# EAGLE library part RBB30DHHN (library FutureSat)
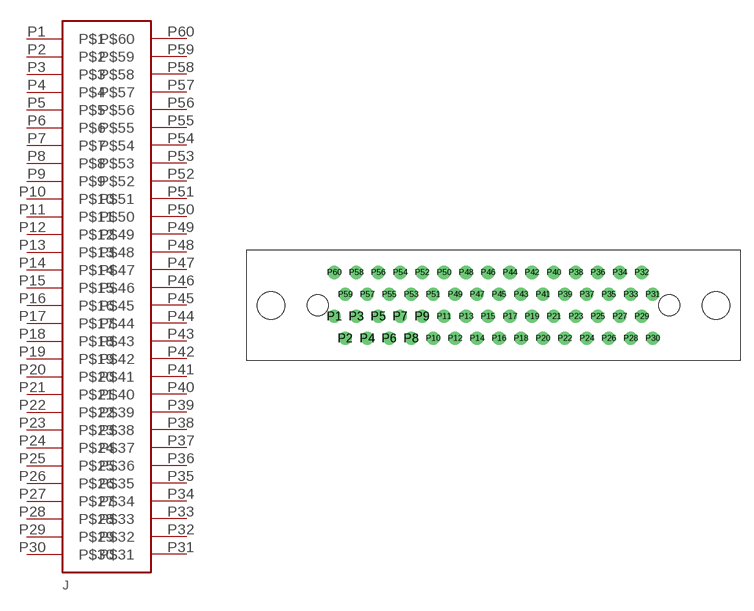
[diagram p1: symbol with the pads of RBB30DHHN; footprint RBB30DHHN]

Designator prefix J

## RBB30DHHN  [RBB30DHHN]
P1  P$1
P2  P$2
P3  P$3
P4  P$4
P5  P$5
P6  P$6
P7  P$7
P8  P$8
P9  P$9
P10  P$10
P11  P$11
P12  P$12
P13  P$13
P14  P$14
P15  P$15
P16  P$16
P17  P$17
P18  P$18
P19  P$19
P20  P$20
P21  P$21
P22  P$22
P23  P$23
P24  P$24
P25  P$25
P26  P$26
P27  P$27
P28  P$28
P29  P$29
P30  P$30
P31  P$31
P32  P$32
P33  P$33
P34  P$34
P35  P$35
P36  P$36
P37  P$37
P38  P$38
P39  P$39
P40  P$40
P41  P$41
P42  P$42
P43  P$43
P44  P$44
P45  P$45
P46  P$46
P47  P$47
P48  P$48
P49  P$49
P50  P$50
P51  P$51
P52  P$52
P53  P$53
P54  P$54
P55  P$55
P56  P$56
P57  P$57
P58  P$58
P59  P$59
P60  P$60

## Footprint RBB30DHHN (pad centres in mm)
drill 1.02: P1 -19.05,-1.27; P2 -17.78,-3.81; P3 -16.51,-1.27; P4 -15.24,-3.81; P5 -13.97,-1.27; P6 -12.7,-3.81; P7 -11.43,-1.27; P8 -10.16,-3.81; P9 -8.89,-1.27; P10 -7.62,-3.81; P11 -6.35,-1.27; P12 -5.08,-3.81; P13 -3.81,-1.27; P14 -2.54,-3.81; P15 -1.27,-1.27; P16 0,-3.81; P17 1.27,-1.27; P18 2.54,-3.81; P19 3.81,-1.27; P20 5.08,-3.81; P21 6.35,-1.27; P22 7.62,-3.81; P23 8.89,-1.27; P24 10.16,-3.81; P25 11.43,-1.27; P26 12.7,-3.81; P27 13.97,-1.27; P28 15.24,-3.81; P29 16.51,-1.27; P30 17.78,-3.81; P31 17.78,1.27; P32 16.51,3.81; P33 15.24,1.27; P34 13.97,3.81; P35 12.7,1.27; P36 11.43,3.81; P37 10.16,1.27; P38 8.89,3.81; P39 7.62,1.27; P40 6.35,3.81; P41 5.08,1.27; P42 3.81,3.81; P43 2.54,1.27; P44 1.27,3.81; P45 0,1.27; P46 -1.27,3.81; P47 -2.54,1.27; P48 -3.81,3.81; P49 -5.08,1.27; P50 -6.35,3.81; P51 -7.62,1.27; P52 -8.89,3.81; P53 -10.16,1.27; P54 -11.43,3.81; P55 -12.7,1.27; P56 -13.97,3.81; P57 -15.24,1.27; P58 -16.51,3.81; P59 -17.78,1.27; P60 -19.05,3.81
hole 2.44 at -20.955,0
hole 2.44 at 19.685,0
hole 3.18 at -26.365,0
hole 3.18 at 25.095,0